# Altium schematic symbol library 67997-402HLF.SchLib: 2 symbols
Pins are listed as number, name and electrical type; pins without a type are passive.

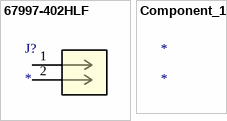
[diagram p0: symbols 67997-402HLF to Component_1]

## 67997-402HLF
designator J?
No Description Available; Mfr_Name: Amphenol ICC; Digi-Key_Part_Number_2: 67997-402HLF-ND; Digi-Key_Part_Number_1: 609-5502-ND; RefDes: RefDes; Type: Type
footprint 2Pins_AMP
pins: 1, 2

## Component_1
designator *